# EAGLE library part 691210910008 (library Wurth_Terminal_Blocks_Connectors_rev15d)
WR-TBL Serie 2109 - 2.54mm Horizontal Entry Modular with Rising Cage Clamp - 0.8mm2 Wires, 8 Pins=>Code : Con_TBL_Screw_RisingClamp_2.54_691210910008 <http://katalog.we-online.de/media/images/eican/Con_TBL_Screw_RisingClamp_2.54_6912109100xx_pf2.jpg> Details see: http://katalog.we-online.de/en/em/691_210_910_0xx Created 2014-06-18, Karrer Zheng 2014 (C) Würth Elektronik
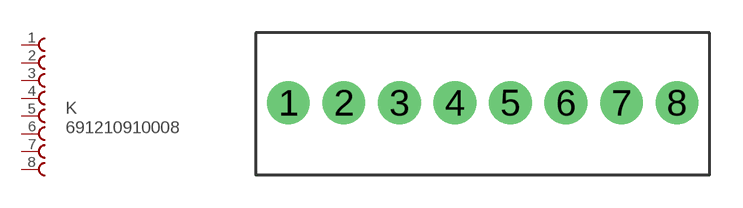
[diagram p5: symbol with the pads of 691210910008; footprint 691210910008]

Designator prefix K

## 691210910008  [691210910008]
1  1  pas
2  2  pas
3  3  pas
4  4  pas
5  5  pas
6  6  pas
7  7  pas
8  8  pas

## Footprint 691210910008 (pad centres in mm)
WR-TBL Serie 2109 - 2.54mm Horizontal Entry Modular with Rising Cage Clamp - 0.8mm2 Wires, 8 Pins
drill 1.3: 1 -2.54,0; 2 0,0; 3 2.54,0; 4 5.08,0; 5 7.62,0; 6 10.16,0; 7 12.7,0; 8 15.24,0